# EAGLE library part SIM100/2 (library con-amp)
AMP connector
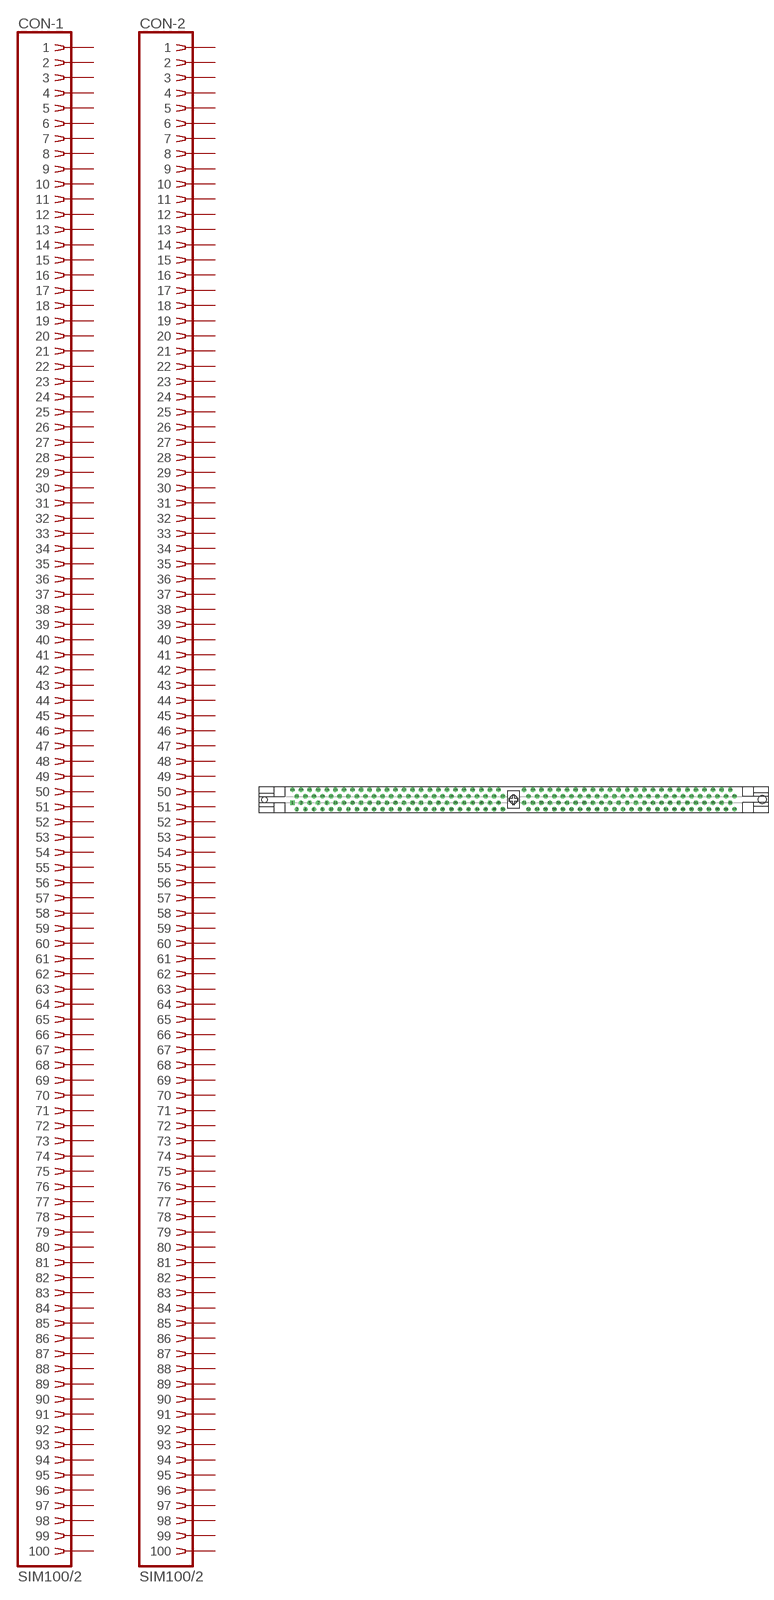
[diagram p12: symbol with the pads of 382784-1; footprint 382784-1]

Designator prefix CON; gates -1=SIMM100 -2=SIMM100

## SIM100/2  [382784-1]
1  -1:1  pas
2  -1:2  pas
3  -1:3  pas
4  -1:4  pas
5  -1:5  pas
6  -1:6  pas
7  -1:7  pas
8  -1:8  pas
9  -1:9  pas
10  -1:10  pas
11  -1:11  pas
12  -1:12  pas
13  -1:13  pas
14  -1:14  pas
15  -1:15  pas
16  -1:16  pas
17  -1:17  pas
18  -1:18  pas
19  -1:19  pas
20  -1:20  pas
21  -1:21  pas
22  -1:22  pas
23  -1:23  pas
24  -1:24  pas
25  -1:25  pas
26  -1:26  pas
27  -1:27  pas
28  -1:28  pas
29  -1:29  pas
30  -1:30  pas
31  -1:31  pas
32  -1:32  pas
33  -1:33  pas
34  -1:34  pas
35  -1:35  pas
36  -1:36  pas
37  -1:37  pas
38  -1:38  pas
39  -1:39  pas
40  -1:40  pas
41  -1:41  pas
42  -1:42  pas
43  -1:43  pas
44  -1:44  pas
45  -1:45  pas
46  -1:46  pas
47  -1:47  pas
48  -1:48  pas
49  -1:49  pas
50  -1:50  pas
51  -1:51  pas
52  -1:52  pas
53  -1:53  pas
54  -1:54  pas
55  -1:55  pas
56  -1:56  pas
57  -1:57  pas
58  -1:58  pas
59  -1:59  pas
60  -1:60  pas
61  -1:61  pas
62  -1:62  pas
63  -1:63  pas
64  -1:64  pas
65  -1:65  pas
66  -1:66  pas
67  -1:67  pas
68  -1:68  pas
69  -1:69  pas
70  -1:70  pas
71  -1:71  pas
72  -1:72  pas
73  -1:73  pas
74  -1:74  pas
75  -1:75  pas
76  -1:76  pas
77  -1:77  pas
78  -1:78  pas
79  -1:79  pas
80  -1:80  pas
81  -1:81  pas
82  -1:82  pas
83  -1:83  pas
84  -1:84  pas
85  -1:85  pas
86  -1:86  pas
87  -1:87  pas
88  -1:88  pas
89  -1:89  pas
90  -1:90  pas
91  -1:91  pas
92  -1:92  pas
93  -1:93  pas
94  -1:94  pas
95  -1:95  pas
96  -1:96  pas
97  -1:97  pas
98  -1:98  pas
99  -1:99  pas
100  -1:100  pas
101  -2:1  pas
102  -2:2  pas
103  -2:3  pas
104  -2:4  pas
105  -2:5  pas
106  -2:6  pas
107  -2:7  pas
108  -2:8  pas
109  -2:9  pas
110  -2:10  pas
111  -2:11  pas
112  -2:12  pas
113  -2:13  pas
114  -2:14  pas
115  -2:15  pas
116  -2:16  pas
117  -2:17  pas
118  -2:18  pas
119  -2:19  pas
120  -2:20  pas
121  -2:21  pas
122  -2:22  pas
123  -2:23  pas
124  -2:24  pas
125  -2:25  pas
126  -2:26  pas
127  -2:27  pas
128  -2:28  pas
129  -2:29  pas
130  -2:30  pas
131  -2:31  pas
132  -2:32  pas
133  -2:33  pas
134  -2:34  pas
135  -2:35  pas
136  -2:36  pas
137  -2:37  pas
138  -2:38  pas
139  -2:39  pas
140  -2:40  pas
141  -2:41  pas
142  -2:42  pas
143  -2:43  pas
144  -2:44  pas
145  -2:45  pas
146  -2:46  pas
147  -2:47  pas
148  -2:48  pas
149  -2:49  pas
150  -2:50  pas
151  -2:51  pas
152  -2:52  pas
153  -2:53  pas
154  -2:54  pas
155  -2:55  pas
156  -2:56  pas
157  -2:57  pas
158  -2:58  pas
159  -2:59  pas
160  -2:60  pas
161  -2:61  pas
162  -2:62  pas
163  -2:63  pas
164  -2:64  pas
165  -2:65  pas
166  -2:66  pas
167  -2:67  pas
168  -2:68  pas
169  -2:69  pas
170  -2:70  pas
171  -2:71  pas
172  -2:72  pas
173  -2:73  pas
174  -2:74  pas
175  -2:75  pas
176  -2:76  pas
177  -2:77  pas
178  -2:78  pas
179  -2:79  pas
180  -2:80  pas
181  -2:81  pas
182  -2:82  pas
183  -2:83  pas
184  -2:84  pas
185  -2:85  pas
186  -2:86  pas
187  -2:87  pas
188  -2:88  pas
189  -2:89  pas
190  -2:90  pas
191  -2:91  pas
192  -2:92  pas
193  -2:93  pas
194  -2:94  pas
195  -2:95  pas
196  -2:96  pas
197  -2:97  pas
198  -2:98  pas
199  -2:99  pas
200  -2:100  pas

## Footprint 382784-1 (pad centres in mm)
DIMM I Dual Read Out
drill 0.813 square: 1 -65.405,-0.953
drill 0.813 octagon: 2 -64.135,-2.857; 3 -62.865,-0.953; 4 -61.595,-2.857; 5 -60.325,-0.953; 6 -59.055,-2.857; 7 -57.785,-0.953; 8 -56.515,-2.857; 9 -55.245,-0.953; 10 -53.975,-2.857; 11 -52.705,-0.953; 12 -51.435,-2.857; 13 -50.165,-0.953; 14 -48.895,-2.857; 15 -47.625,-0.953; 16 -46.355,-2.857; 17 -45.085,-0.953; 18 -43.815,-2.857; 19 -42.545,-0.953; 20 -41.275,-2.857; 21 -40.005,-0.953; 22 -38.735,-2.857; 23 -37.465,-0.953; 24 -36.195,-2.857; 25 -34.925,-0.953; 26 -33.655,-2.857; 27 -32.385,-0.953; 28 -31.115,-2.857; 29 -29.845,-0.953; 30 -28.575,-2.857; 31 -27.305,-0.953; 32 -26.035,-2.857; 33 -24.765,-0.953; 34 -23.495,-2.857; 35 -22.225,-0.953; 36 -20.955,-2.857; 37 -19.685,-0.953; 38 -18.415,-2.857; 39 -17.145,-0.953; 40 -15.875,-2.857; 41 -14.605,-0.953; 42 -13.335,-2.857; 43 -12.065,-0.953; 44 -10.795,-2.857; 45 -9.525,-0.953; 46 -8.255,-2.857; 47 -6.985,-0.953; 48 -5.715,-2.857; 49 -4.445,-0.953; 50 -3.175,-2.857; 51 3.175,-0.953; 52 4.445,-2.857; 53 5.715,-0.953; 54 6.985,-2.857; 55 8.255,-0.953; 56 9.525,-2.857; 57 10.795,-0.953; 58 12.065,-2.857; 59 13.335,-0.953; 60 14.605,-2.857; 61 15.875,-0.953; 62 17.145,-2.857; 63 18.415,-0.953; 64 19.685,-2.857; 65 20.955,-0.953; 66 22.225,-2.857; 67 23.495,-0.953; 68 24.765,-2.857; 69 26.035,-0.953; 70 27.305,-2.857; 71 28.575,-0.953; 72 29.845,-2.857; 73 31.115,-0.953; 74 32.385,-2.857; 75 33.655,-0.953; 76 34.925,-2.857; 77 36.195,-0.953; 78 37.465,-2.857; 79 38.735,-0.953; 80 40.005,-2.857; 81 41.275,-0.953; 82 42.545,-2.857; 83 43.815,-0.953; 84 45.085,-2.857; 85 46.355,-0.953; 86 47.625,-2.857; 87 48.895,-0.953; 88 50.165,-2.857; 89 51.435,-0.953; 90 52.705,-2.857; 91 53.975,-0.953; 92 55.245,-2.857; 93 56.515,-0.953; 94 57.785,-2.857; 95 59.055,-0.953; 96 60.325,-2.857; 97 61.595,-0.953; 98 62.865,-2.857; 99 64.135,-0.953; 100 65.405,-2.857; 101 -65.405,2.857; 102 -64.135,0.953; 103 -62.865,2.857; 104 -61.595,0.953; 105 -60.325,2.857; 106 -59.055,0.953; 107 -57.785,2.857; 108 -56.515,0.953; 109 -55.245,2.857; 110 -53.975,0.953; 111 -52.705,2.857; 112 -51.435,0.953; 113 -50.165,2.857; 114 -48.895,0.953; 115 -47.625,2.857; 116 -46.355,0.953; 117 -45.085,2.857; 118 -43.815,0.953; 119 -42.545,2.857; 120 -41.275,0.953; 121 -40.005,2.857; 122 -38.735,0.953; 123 -37.465,2.857; 124 -36.195,0.953; 125 -34.925,2.857; 126 -33.655,0.953; 127 -32.385,2.857; 128 -31.115,0.953; 129 -29.845,2.857; 130 -28.575,0.953; 131 -27.305,2.857; 132 -26.035,0.953; 133 -24.765,2.857; 134 -23.495,0.953; 135 -22.225,2.857; 136 -20.955,0.953; 137 -19.685,2.857; 138 -18.415,0.953; 139 -17.145,2.857; 140 -15.875,0.953; 141 -14.605,2.857; 142 -13.335,0.953; 143 -12.065,2.857; 144 -10.795,0.953; 145 -9.525,2.857; 146 -8.255,0.953; 147 -6.985,2.857; 148 -5.715,0.953; 149 -4.445,2.857; 150 -3.175,0.953; 151 3.175,2.857; 152 4.445,0.953; 153 5.715,2.857; 154 6.985,0.953; 155 8.255,2.857; 156 9.525,0.953; 157 10.795,2.857; 158 12.065,0.953; 159 13.335,2.857; 160 14.605,0.953; 161 15.875,2.857; 162 17.145,0.953; 163 18.415,2.857; 164 19.685,0.953; 165 20.955,2.857; 166 22.225,0.953; 167 23.495,2.857; 168 24.765,0.953; 169 26.035,2.857; 170 27.305,0.953; 171 28.575,2.857; 172 29.845,0.953; 173 31.115,2.857; 174 32.385,0.953; 175 33.655,2.857; 176 34.925,0.953; 177 36.195,2.857; 178 37.465,0.953; 179 38.735,2.857; 180 40.005,0.953; 181 41.275,2.857; 182 42.545,0.953; 183 43.815,2.857; 184 45.085,0.953; 185 46.355,2.857; 186 47.625,0.953; 187 48.895,2.857; 188 50.165,0.953; 189 51.435,2.857; 190 52.705,0.953; 191 53.975,2.857; 192 55.245,0.953; 193 56.515,2.857; 194 57.785,0.953; 195 59.055,2.857; 196 60.325,0.953; 197 61.595,2.857; 198 62.865,0.953; 199 64.135,2.857; 200 65.405,0.953
hole 1.575 at -73.66,0
hole 2.362 at 0,0
hole 2.362 at 73.66,0